# EAGLE library part 253-108/000-017 (library con-wago_253)
Serie 253, Stand: 01.01.2012. Die jeweils aktuellen Daten zu diesem Artikel finden Sie in unserem Produktkatalog, den Sie unter www.wago.com einsehen können. As of: 01/01/2012. Please find the newest data for this article in our product catalogue, which can be viewed under www.wago.com.
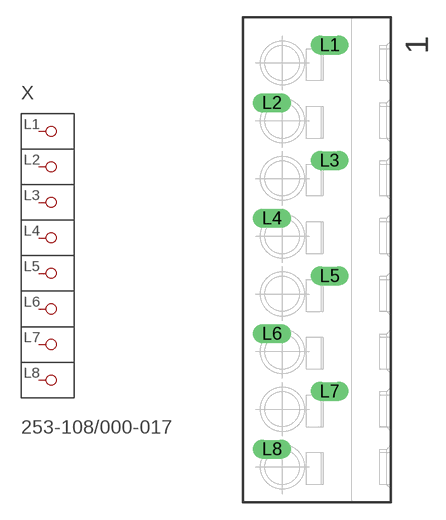
[diagram p80: symbol with the pads of P-253-108; footprint P-253-108]

Designator prefix X

## 253-108/000-017  [P-253-108]
L1  P1
L2  P2
L3  P3
L4  P4
L5  P5
L6  P6
L7  P7
L8  P8

## Footprint P-253-108 (pad centres in mm)
drill 1.1 long: L1 1.1,18.6; L2 -3.9,13.6; L3 1.1,8.6; L4 -3.9,3.6; L5 1.1,-1.4; L6 -3.9,-6.4; L7 1.1,-11.4; L8 -3.9,-16.4